# EAGLE library part TSL2584TSV (library TSL2584TSV)
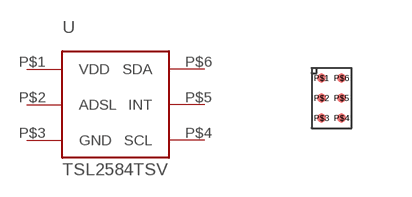
[diagram p0: symbol with the pads of 6-XFBGA; footprint 6-XFBGA]

Designator prefix -

## TSL2584TSV6-XFBGA  [6-XFBGA]
P$1  VDD
P$2  ADSL
P$3  GND
P$4  SCL
P$5  INT
P$6  SDA

## Footprint 6-XFBGA (pad centres in mm)
smd 0.226 x 0.226: P$1 -0.25,0.5; P$2 -0.25,0; P$3 -0.25,-0.5; P$4 0.25,-0.5; P$5 0.25,0; P$6 0.25,0.5